# EAGLE library part AS7221 (library GueLogics)
AS7221 Network-enabled sensing and integrated IoT luminaire management for spectrally tunable systems
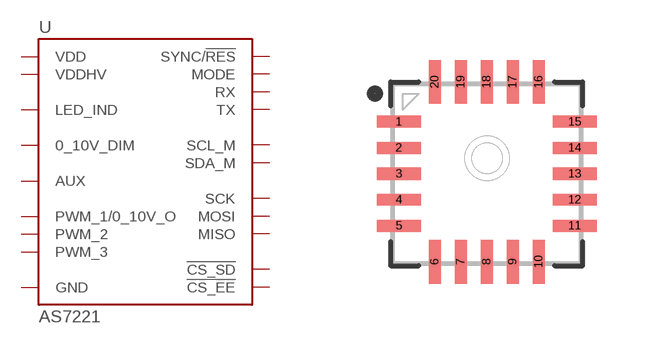
[diagram p5: symbol with the pads of LGA20; footprint LGA20]

Designator prefix -

## AS7221  [LGA20]
1  PWM_3  out
2  SYNC/!RES  in
3  SCK  out
4  MOSI
5  MISO
6  !CS_EE  out
7  !CS_SD  out
8  AUX  in
9  SCL_M  in
10  SDA_M
11  RX  in
12  TX  out
13  0_10V_DIM  in
14  VDDHV  pwr
15  MODE  in
16  GND  pwr
17  VDD  pwr
18  LED_IND
19  PWM_1/0_10V_O  out
20  PWM_2  out

## Footprint LGA20 (pad centres in mm)
smd 1.1 x 0.3: 1 -2.2,1.3; 2 -2.2,0.65; 3 -2.2,0; 4 -2.2,-0.65; 5 -2.2,-1.3; 11 2.2,-1.3; 12 2.2,-0.65; 13 2.2,0; 14 2.2,0.65; 15 2.2,1.3
smd 0.3 x 1.1: 6 -1.3,-2.2; 7 -0.65,-2.2; 8 0,-2.2; 9 0.65,-2.2; 10 1.3,-2.2; 16 1.3,2.3; 17 0.65,2.3; 18 0,2.3; 19 -0.65,2.3; 20 -1.3,2.3